# Altium footprint library con-cpci.PCBLIB: 25 footprints (part 1 of 2)
Each footprint in its own frame and in the unit in brackets; x right, y up, seen from the top. Pads: shape width x height; smd on the part's side, far side on the other; paste and mask are expansions set on the pad; w line width, h text height; cw(c..) or ccw(c..) is an arc to the next point about the centre after c.
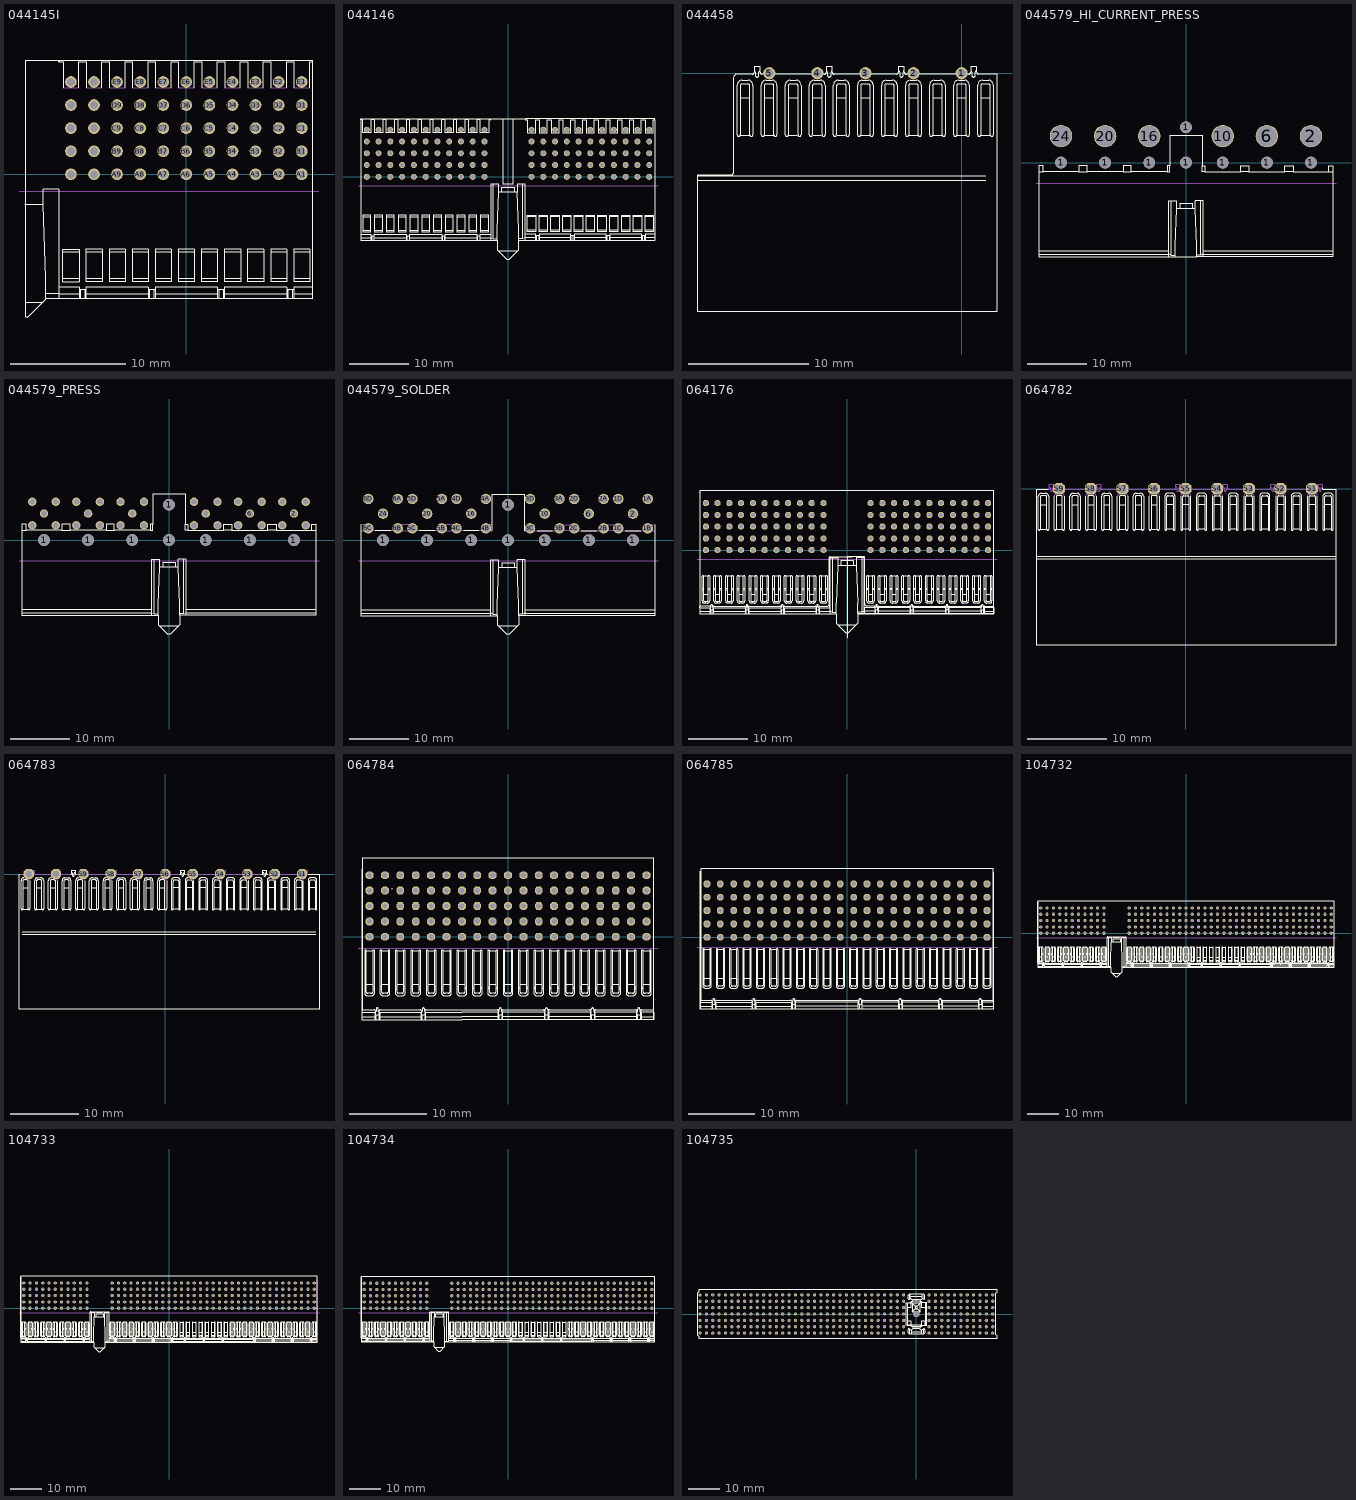
[diagram p0: the footprints below, top view; thin cyan lines are the x and y axes]

## 044145I [mil]
pads (55):
  round 40 hole 27.56: A1(393.7,0) A2(314.96,0) A3(236.22,0) A4(157.48,0) A5(78.74,0) A6(0,0) A7(-78.74,0) A8(-157.48,0) A9(-236.22,0) A10(-314.96,0) A11(-393.7,0) B1(393.7,78.74) B2(314.96,78.74) B3(236.22,78.74) B4(157.48,78.74) B5(78.74,78.74) B6(0,78.74) B7(-78.74,78.74) B8(-157.48,78.74) B9(-236.22,78.74) B10(-314.96,78.74) B11(-393.7,78.74) C1(393.7,157.48) C2(314.96,157.48) C3(236.22,157.48) C4(157.48,157.48) C5(78.74,157.48) C6(0,157.48) C7(-78.74,157.48) C8(-157.48,157.48) C9(-236.22,157.48) C10(-314.96,157.48) C11(-393.7,157.48) D1(393.7,236.22) D2(314.96,236.22) D3(236.22,236.22) D4(157.48,236.22) D5(78.74,236.22) D6(0,236.22) D7(-78.74,236.22) D8(-157.48,236.22) D9(-236.22,236.22) D10(-314.96,236.22) D11(-393.7,236.22) E1(393.7,314.96) E2(314.96,314.96) E3(236.22,314.96) E4(157.48,314.96) E5(78.74,314.96) E6(0,314.96) E7(-78.74,314.96) E8(-157.48,314.96) E9(-236.22,314.96) E10(-314.96,314.96) E11(-393.7,314.96)
Top Overlay:
  lines w4: -551.18,-104.33 -488.06,-104.33 ; -549.21,-436.02 -489.17,-436.02 ; -479.33,-405.51 -435.04,-405.51 ; -435.04,-425.2 -435.04,-51.18 -488.06,-51.18 -488.06,-104.33 ; -435.04,-409.45 -366.14,-409.45 ; -435.04,-385.83 -366.14,-385.83 -366.14,-425.2 ; -421.26,-356.3 -366.14,-356.3 ; -421.26,-265.75 -366.14,-265.75 ; -420.59,294.71 -420.59,383.3 -433.07,383.3 ; -366.61,294.71 -366.61,383.3 -341.85,383.3 -341.85,294.71 ; -366.14,-393.7 -342.52,-393.7 ; -362.2,-425.2 -362.2,-393.7 ; -346.46,-425.2 -346.46,-393.7 ; -342.52,-425.2 -342.52,-385.83 -129.92,-385.83 -129.92,-425.2 ; -342.52,-409.45 -129.92,-409.45 ; -342.52,-356.3 -287.4,-356.3 ; -342.52,-265.75 -287.4,-265.75 ; -287.87,294.71 -287.87,383.3 -263.11,383.3 -263.11,294.71 ; -263.78,-356.3 -208.66,-356.3 ; -263.78,-265.75 -208.66,-265.75 ; -209.13,294.71 -209.13,383.3 -184.37,383.3 -184.37,294.71 ; -185.04,-356.3 -129.92,-356.3 ; -185.04,-265.75 -129.92,-265.75 ; -130.39,294.71 -130.39,383.3 -105.63,383.3 -105.63,294.71 ; -129.92,-393.7 -106.3,-393.7 ; -125.98,-425.2 -125.98,-393.7 ; -110.24,-425.2 -110.24,-393.7 ; -106.3,-425.2 -106.3,-385.83 106.3,-385.83 106.3,-425.2 ; -106.3,-409.45 106.3,-409.45 ; -106.3,-356.3 -51.18,-356.3 ; -106.3,-265.75 -51.18,-265.75 ; -51.65,294.71 -51.65,383.3 -26.89,383.3 -26.89,294.71 ; -27.56,-356.3 27.56,-356.3 ; -27.56,-265.75 27.56,-265.75 ; 27.09,294.71 27.09,383.3 51.85,383.3 51.85,294.71 ; 51.18,-356.3 106.3,-356.3 ; 51.18,-265.75 106.3,-265.75 ; 105.83,294.71 105.83,383.3 130.59,383.3 130.59,294.71 ; 106.3,-393.7 129.92,-393.7 ; 110.24,-425.2 110.24,-393.7 ; 125.98,-425.2 125.98,-393.7 ; 129.92,-425.2 129.92,-385.83 342.52,-385.83 342.52,-425.2 ; 129.92,-409.45 342.52,-409.45 ; 129.92,-356.3 185.04,-356.3 ; 129.92,-265.75 185.04,-265.75 ; 184.57,294.71 184.57,383.3 209.33,383.3 209.33,294.71 ; 208.66,-356.3 263.78,-356.3 ; 208.66,-265.75 263.78,-265.75 ; 263.31,294.71 263.31,383.3 288.07,383.3 288.07,294.71 ; 287.4,-356.3 342.52,-356.3 ; 287.4,-265.75 342.52,-265.75 ; 342.05,294.71 342.05,383.3 366.82,383.3 366.82,294.71 ; 342.52,-393.7 366.14,-393.7 ; 346.46,-425.2 346.46,-393.7 ; 362.2,-425.2 362.2,-393.7 ; 366.14,-425.2 366.14,-385.83 431.89,-385.83 ; 366.14,-409.45 431.89,-409.45 ; 366.14,-356.3 421.26,-356.3 ; 366.14,-265.75 421.26,-265.75 ; 420.79,294.71 420.79,383.3 431.89,383.3 ; -488.06,-104.33 -479.33,-354.33 -479.33,-425.2 ; -479.33,-425.2 431.89,-425.2 431.89,383.3 ; -479.33,-425.2 -479.33,-426.18 -541.34,-488.19 -549.21,-488.19 -549.21,387.8 -435.04,387.8 -435.04,383.3 -433.07,383.3 ; -433.07,383.3 -433.07,387.8 431.89,387.8 431.89,383.3 ; -421.26,-366.15 -421.26,-255.91 -366.14,-255.91 -366.14,-366.15 -421.26,-366.15 ; -342.52,-366.15 -342.52,-255.91 -287.4,-255.91 -287.4,-366.15 -342.52,-366.15 ; -263.78,-366.15 -263.78,-255.91 -208.66,-255.91 -208.66,-366.15 -263.78,-366.15 ; -185.04,-366.15 -185.04,-255.91 -129.92,-255.91 -129.92,-366.15 -185.04,-366.15 ; -106.3,-366.15 -106.3,-255.91 -51.18,-255.91 -51.18,-366.15 -106.3,-366.15 ; -27.56,-366.15 -27.56,-255.91 27.56,-255.91 27.56,-366.15 -27.56,-366.15 ; 51.18,-366.15 51.18,-255.91 106.3,-255.91 106.3,-366.15 51.18,-366.15 ; 129.92,-366.15 129.92,-255.91 185.04,-255.91 185.04,-366.15 129.92,-366.15 ; 208.66,-366.15 208.66,-255.91 263.78,-255.91 263.78,-366.15 208.66,-366.15 ; 287.4,-366.15 287.4,-255.91 342.52,-255.91 342.52,-366.15 287.4,-366.15 ; 366.14,-366.15 366.14,-255.91 421.26,-255.91 421.26,-366.15 366.14,-366.15
Mechanical 1:
  lines w0: -570.87,-59.06 452.76,-59.06
Mechanical 16:
  lines w4: -420.59,294.71 -366.61,294.71 ; -341.85,294.71 -287.87,294.71 ; -263.11,294.71 -209.13,294.71 ; -184.37,294.71 -130.39,294.71 ; -105.63,294.71 -51.65,294.71 ; -26.89,294.71 27.09,294.71 ; 51.85,294.71 105.83,294.71 ; 130.59,294.71 184.57,294.71 ; 209.33,294.71 263.31,294.71 ; 288.07,294.71 342.05,294.71 ; 366.82,294.71 420.79,294.71

## 044146 [mil]
pads (110):
  round 40 hole 27.56: A1(944.88,0) A2(866.14,0) A3(787.4,0) A4(708.66,0) A5(629.92,0) A6(551.18,0) A7(472.44,0) A8(393.7,0) A9(314.96,0) A10(236.22,0) A11(157.48,0) A15(-157.48,0) A16(-236.22,0) A17(-314.96,0) A18(-393.7,0) A19(-472.44,0) A20(-551.18,0) A21(-629.92,0) A22(-708.66,0) A23(-787.4,0) A24(-866.14,0) A25(-944.88,0) B1(944.88,78.74) B2(866.14,78.74) B3(787.4,78.74) B4(708.66,78.74) B5(629.92,78.74) B6(551.18,78.74) B7(472.44,78.74) B8(393.7,78.74) B9(314.96,78.74) B10(236.22,78.74) B11(157.48,78.74) B15(-157.48,78.74) B16(-236.22,78.74) B17(-314.96,78.74) B18(-393.7,78.74) B19(-472.44,78.74) B20(-551.18,78.74) B21(-629.92,78.74) B22(-708.66,78.74) B23(-787.4,78.74) B24(-866.14,78.74) B25(-944.88,78.74) C1(944.88,157.48) C2(866.14,157.48) C3(787.4,157.48) C4(708.66,157.48) C5(629.92,157.48) C6(551.18,157.48) C7(472.44,157.48) C8(393.7,157.48) C9(314.96,157.48) C10(236.22,157.48) C11(157.48,157.48) C15(-157.48,157.48) C16(-236.22,157.48) C17(-314.96,157.48) C18(-393.7,157.48) C19(-472.44,157.48) C20(-551.18,157.48) C21(-629.92,157.48) C22(-708.66,157.48) C23(-787.4,157.48) C24(-866.14,157.48) C25(-944.88,157.48) D1(944.88,236.22) D2(866.14,236.22) D3(787.4,236.22) D4(708.66,236.22) D5(629.92,236.22) D6(551.18,236.22) D7(472.44,236.22) D8(393.7,236.22) D9(314.96,236.22) D10(236.22,236.22) D11(157.48,236.22) D15(-157.48,236.22) D16(-236.22,236.22) D17(-314.96,236.22) D18(-393.7,236.22) D19(-472.44,236.22) D20(-551.18,236.22) D21(-629.92,236.22) D22(-708.66,236.22) D23(-787.4,236.22) D24(-866.14,236.22) D25(-944.88,236.22) E1(944.88,314.96) E2(866.14,314.96) E3(787.4,314.96) E4(708.66,314.96) E5(629.92,314.96) E6(551.18,314.96) E7(472.44,314.96) E8(393.7,314.96) E9(314.96,314.96) E10(236.22,314.96) E11(157.48,314.96) E15(-157.48,314.96) E16(-236.22,314.96) E17(-314.96,314.96) E18(-393.7,314.96) E19(-472.44,314.96) E20(-551.18,314.96) E21(-629.92,314.96) E22(-708.66,314.96) E23(-787.4,314.96) E24(-866.14,314.96) E25(-944.88,314.96)
Top Overlay:
  drawing of 326 lines, arcs and shapes, not listed
Mechanical 1:
  lines w0: -1003.94,-59.06 1003.94,-59.06

## 044458 [mil]
pads (5):
  round 40 hole 27.56: 1(0,0) 2(-157.48,0) 3(-314.96,0) 4(-472.44,0) 5(-629.92,0)
Top Overlay:
  drawing of 217 lines, arcs and shapes, not listed

## 044579_HI_CURRENT_PRESS [mm]
pads (14):
  round 2 hole 2: 1(-21.25,0) 1(-13.75,0) 1(-6.25,0) 1(0,0) 1(0,6) 1(6.25,0) 1(13.75,0) 1(21.25,0)
  round 3.81 hole 3.5: 2(21.25,4.5) 6(13.75,4.5) 10(6.25,4.5) 16(-6.25,4.5) 20(-13.75,4.5) 24(-21.25,4.5)
Top Overlay:
  lines w0.102: -25,-15.575 -2.95,-15.575 ; -25,-14.975 -2.95,-14.975 ; -25,-1.525 -24.3,-1.525 ; -2.95,-15.975 -2.95,-6.475 -1.603,-6.475 -1.603,-7.825 ; -2.95,-15.502 -2.474,-15.74 ; -2.474,-6.475 -2.474,-15.74 ; -1.825,-15.74 -2.474,-15.74 ; -1.103,-7.825 -1.103,-6.925 1.103,-6.925 1.103,-7.825 ; 1.825,-15.74 2.474,-15.74 ; 2.474,-6.475 2.474,-15.74 ; 2.95,-15.975 2.95,-6.475 1.603,-6.475 1.603,-7.825 ; 2.95,-15.575 24.97,-15.575 ; 2.95,-15.502 2.474,-15.74 ; 2.95,-14.975 24.97,-14.975 ; 24.97,-1.525 24.3,-1.525 ; -24.3,-1.525 -18.2,-1.525 ; -24.3,-1.525 -24.3,-0.525 -25,-0.525 -25,-15.975 -1.825,-15.975 ; -18.2,-1.525 -18.2,-0.525 -16.8,-0.525 -16.8,-1.525 ; -18.2,-1.525 -16.8,-1.525 ; -16.8,-1.525 -10.7,-1.525 ; -10.7,-1.525 -10.7,-0.525 -9.3,-0.525 -9.3,-1.525 ; -10.7,-1.525 -9.3,-1.525 ; -9.3,-1.525 -3.2,-1.525 ; -3.2,-1.525 -3.2,-0.525 -2.75,-0.525 ; -3.2,-1.525 -2.75,-1.525 -2.75,-0.525 ; -2.75,-0.525 -2.75,4.675 2.75,4.675 2.75,-0.525 ; -1.825,-15.975 -1.825,-14.175 -1.603,-7.825 ; -1.825,-15.975 1.825,-15.975 ; -1.603,-7.825 1.603,-7.825 ; 1.603,-7.825 1.825,-14.175 1.825,-15.975 ; 1.825,-15.975 24.97,-15.975 24.97,-0.525 24.3,-0.525 24.3,-1.525 ; 2.75,-0.525 3.2,-0.525 3.2,-1.525 ; 2.75,-0.525 2.75,-1.525 3.2,-1.525 ; 3.2,-1.525 9.3,-1.525 ; 9.3,-1.525 9.3,-0.525 10.7,-0.525 10.7,-1.525 ; 9.3,-1.525 10.7,-1.525 ; 10.7,-1.525 16.8,-1.525 ; 16.8,-1.525 16.8,-0.525 18.2,-0.525 18.2,-1.525 ; 16.8,-1.525 18.2,-1.525 ; 18.2,-1.525 24.3,-1.525
Mechanical 1:
  lines w0: -25.5,-3.5 25.5,-3.5

## 044579_PRESS [mil]
pads (38):
  round 78.74 hole 78.74: 1(-836.61,0) 1(-541.34,0) 1(-246.06,0) 1(0,0) 1(0,236.22) 1(246.06,0) 1(541.34,0) 1(836.61,0)
  round 56 hole 39.37: 2(836.61,177.17) 2.1(915.35,255.91) 2.2(915.35,98.43) 2.3(757.87,98.43) 2.4(757.87,255.91) 6(541.34,177.17) 6.1(620.08,255.91) 6.2(620.08,98.43) 6.3(462.6,98.43) 6.4(462.6,255.91) 10(246.06,177.17) 10.1(324.8,255.91) 10.2(324.8,98.43) 10.3(167.32,98.43) 10.4(167.32,255.91) 16(-246.06,177.17) 16.1(-167.32,255.91) 16.2(-167.32,98.43) 16.3(-324.8,98.43) 16.4(-324.8,255.91) 20(-541.34,177.17) 20.1(-462.6,255.91) 20.2(-462.6,98.43) 20.3(-620.08,98.43) 20.4(-620.08,255.91) 24(-836.61,177.17) 24.1(-757.87,255.91) 24.2(-757.87,98.43) 24.3(-915.35,98.43) 24.4(-915.35,255.91)
Top Overlay:
  lines w4: -984.25,-488.15 -116.14,-488.15 ; -984.25,-464.53 -116.14,-464.53 ; -984.25,65 -956.69,65 ; -116.14,-503.9 -116.14,-129.88 -63.12,-129.88 -63.12,-183.03 ; -116.14,-485.28 -97.39,-494.65 ; -97.39,-129.88 -97.39,-494.65 ; -71.85,-494.65 -97.39,-494.65 ; -62.01,-577.72 62.01,-577.72 ; -43.43,-183.03 -43.43,-147.6 43.43,-147.6 43.43,-183.03 ; 71.85,-494.65 97.39,-494.65 ; 97.39,-129.88 97.39,-494.65 ; 116.14,-503.9 116.14,-129.88 63.12,-129.88 63.12,-183.03 ; 116.14,-488.15 983.07,-488.15 ; 116.14,-485.28 97.39,-494.65 ; 116.14,-464.53 983.07,-464.53 ; 983.07,65 956.69,65 ; -956.69,65 -716.54,65 ; -956.69,65 -956.69,104.37 -984.25,104.37 -984.25,-503.9 -71.85,-503.9 ; -716.54,65 -716.54,104.37 -661.42,104.37 -661.42,65 ; -716.54,65 -661.42,65 ; -661.42,65 -421.26,65 ; -421.26,65 -421.26,104.37 -366.14,104.37 -366.14,65 ; -421.26,65 -366.14,65 ; -366.14,65 -125.98,65 ; -125.98,65 -125.98,104.37 -108.27,104.37 ; -125.98,65 -108.27,65 -108.27,104.37 ; -108.27,104.37 -108.27,309.09 108.27,309.09 108.27,104.37 ; -71.85,-503.9 -71.85,-567.87 -9.84,-629.88 9.84,-629.88 71.85,-567.87 71.85,-503.9 ; -71.85,-503.9 -71.85,-433.03 -63.12,-183.03 ; -63.12,-183.03 63.12,-183.03 ; 63.12,-183.03 71.85,-433.03 71.85,-503.9 ; 71.85,-503.9 983.07,-503.9 983.07,104.37 956.69,104.37 956.69,65 ; 108.27,104.37 125.98,104.37 125.98,65 ; 108.27,104.37 108.27,65 125.98,65 ; 125.98,65 366.14,65 ; 366.14,65 366.14,104.37 421.26,104.37 421.26,65 ; 366.14,65 421.26,65 ; 421.26,65 661.42,65 ; 661.42,65 661.42,104.37 716.54,104.37 716.54,65 ; 661.42,65 716.54,65 ; 716.54,65 956.69,65
Mechanical 1:
  lines w0: -1003.94,-137.8 1003.94,-137.8

## 044579_SOLDER [mil]
pads (38):
  round 78.74 hole 78.74: 1(-836.61,0) 1(-541.34,0) 1(-246.06,0) 1(0,0) 1(0,236.22) 1(246.06,0) 1(541.34,0) 1(836.61,0)
  round 70 hole 51.18: 1A(935.04,275.59) 1B(935.04,78.74) 1C(738.19,78.74) 1D(738.19,275.59) 2(836.61,177.17) 2A(639.76,275.59) 2B(639.76,78.74) 2C(442.91,78.74) 2D(442.91,275.59) 3A(344.49,275.59) 3B(344.49,78.74) 3C(147.64,78.74) 3D(147.64,275.59) 4A(-147.64,275.59) 4B(-147.64,78.74) 4C(-344.49,78.74) 4D(-344.49,275.59) 5A(-442.91,275.59) 5B(-442.91,78.74) 5C(-639.76,78.74) 5D(-639.76,275.59) 6(541.34,177.17) 6A(-738.19,275.59) 6B(-738.19,78.74) 6C(-935.04,78.74) 6D(-935.04,275.59) 10(246.06,177.17) 16(-246.06,177.17) 20(-541.34,177.17) 24(-836.61,177.17)
Top Overlay:
  lines w4: -984.25,-490.16 -116.14,-490.16 ; -984.25,-466.54 -116.14,-466.54 ; -984.25,102.36 -984.25,-505.91 -71.85,-505.91 -71.85,-435.04 -63.12,-185.04 ; -887.8,62.99 -785.43,62.99 ; -592.52,62.99 -490.16,62.99 ; -297.24,62.99 -194.88,62.99 ; -116.14,-505.91 -116.14,-131.89 -63.12,-131.89 -63.12,-185.04 ; -116.14,-487.28 -97.39,-496.66 ; -108.27,62.99 -108.27,307.09 108.27,307.09 108.27,62.99 ; -97.39,-131.89 -97.39,-496.66 ; -71.85,-503.9 -71.85,-567.87 -9.84,-629.88 9.84,-629.88 71.85,-567.87 71.85,-503.9 ; -71.85,-496.66 -97.39,-496.66 ; -62.01,-577.72 62.01,-577.72 ; -43.43,-185.04 -43.43,-149.61 43.43,-149.61 43.43,-185.04 ; 71.85,-496.66 97.39,-496.66 ; 97.39,-131.89 97.39,-496.66 ; 116.14,-505.91 116.14,-131.89 63.12,-131.89 63.12,-185.04 ; 116.14,-490.16 983.07,-490.16 ; 116.14,-487.28 97.39,-496.66 ; 116.14,-466.54 983.07,-466.54 ; 194.88,62.99 297.24,62.99 ; 490.16,62.99 592.52,62.99 ; 785.43,62.99 887.8,62.99 ; 983.07,102.36 983.07,-505.91 71.85,-505.91 71.85,-435.04 63.12,-185.04 ; -63.12,-185.04 63.12,-185.04
Mechanical 1:
  lines w0: -1003.94,-137.8 1003.94,-137.8
Mechanical 16:
  lines w4: -984.25,62.99 -956.69,62.99 ; -984.25,102.36 -956.69,102.36 -956.69,62.99 ; -108.27,62.99 -125.98,62.99 ; -108.27,102.36 -125.98,102.36 -125.98,62.99 ; 108.27,62.99 366.14,62.99 ; 983.07,62.99 956.69,62.99 ; 983.07,102.36 956.69,102.36 956.69,62.99 ; -956.69,62.99 -716.54,62.99 ; -716.54,62.99 -716.54,102.36 -661.42,102.36 -661.42,62.99 ; -716.54,62.99 -661.42,62.99 ; -661.42,62.99 -421.26,62.99 ; -421.26,62.99 -421.26,102.36 -366.14,102.36 -366.14,62.99 ; -421.26,62.99 -366.14,62.99 ; -366.14,62.99 -125.98,62.99 ; 366.14,62.99 366.14,102.36 421.26,102.36 421.26,62.99 ; 366.14,62.99 421.26,62.99 ; 421.26,62.99 661.42,62.99 ; 661.42,62.99 661.42,102.36 716.54,102.36 716.54,62.99 ; 661.42,62.99 716.54,62.99 ; 716.54,62.99 956.69,62.99

## 064176 [mil]
pads (110):
  oct 40x40 hole 27.56: A1(944.88,0) A2(866.14,0) A3(787.4,0) A4(708.66,0) A5(629.92,0) A6(551.18,0) A7(472.44,0) A8(393.7,0) A9(314.96,0) A10(236.22,0) A11(157.48,0) A15(-157.48,0) A16(-236.22,0) A17(-314.96,0) A18(-393.7,0) A19(-472.44,0) A20(-551.18,0) A21(-629.92,0) A22(-708.66,0) A23(-787.4,0) A24(-866.14,0) A25(-944.88,0) B1(944.88,78.74) B2(866.14,78.74) B3(787.4,78.74) B4(708.66,78.74) B5(629.92,78.74) B6(551.18,78.74) B7(472.44,78.74) B8(393.7,78.74) B9(314.96,78.74) B10(236.22,78.74) B11(157.48,78.74) B15(-157.48,78.74) B16(-236.22,78.74) B17(-314.96,78.74) B18(-393.7,78.74) B19(-472.44,78.74) B20(-551.18,78.74) B21(-629.92,78.74) B22(-708.66,78.74) B23(-787.4,78.74) B24(-866.14,78.74) B25(-944.88,78.74) C1(944.88,157.48) C2(866.14,157.48) C3(787.4,157.48) C4(708.66,157.48) C5(629.92,157.48) C6(551.18,157.48) C7(472.44,157.48) C8(393.7,157.48) C9(314.96,157.48) C10(236.22,157.48) C11(157.48,157.48) C15(-157.48,157.48) C16(-236.22,157.48) C17(-314.96,157.48) C18(-393.7,157.48) C19(-472.44,157.48) C20(-551.18,157.48) C21(-629.92,157.48) C22(-708.66,157.48) C23(-787.4,157.48) C24(-866.14,157.48) C25(-944.88,157.48) D1(944.88,236.22) D2(866.14,236.22) D3(787.4,236.22) D4(708.66,236.22) D5(629.92,236.22) D6(551.18,236.22) D7(472.44,236.22) D8(393.7,236.22) D9(314.96,236.22) D10(236.22,236.22) D11(157.48,236.22) D15(-157.48,236.22) D16(-236.22,236.22) D17(-314.96,236.22) D18(-393.7,236.22) D19(-472.44,236.22) D20(-551.18,236.22) D21(-629.92,236.22) D22(-708.66,236.22) D23(-787.4,236.22) D24(-866.14,236.22) D25(-944.88,236.22) E1(944.88,314.96) E2(866.14,314.96) E3(787.4,314.96) E4(708.66,314.96) E5(629.92,314.96) E6(551.18,314.96) E7(472.44,314.96) E8(393.7,314.96) E9(314.96,314.96) E10(236.22,314.96) E11(157.48,314.96) E15(-157.48,314.96) E16(-236.22,314.96) E17(-314.96,314.96) E18(-393.7,314.96) E19(-472.44,314.96) E20(-551.18,314.96) E21(-629.92,314.96) E22(-708.66,314.96) E23(-787.4,314.96) E24(-866.14,314.96) E25(-944.88,314.96)
Top Overlay:
  drawing of 683 lines, arcs and shapes, not listed
Mechanical 1:
  lines w0: -1003.94,-59.06 1003.94,-59.06

## 064782 [mm]
pads (9):
  oct 1.5x1.5 hole 1: S1(16,0) S2(12,0) S3(8,0) S4(4,0) S5(0,0) S6(-4,0) S7(-8,0) S8(-12,0) S9(-16,0)
Top Overlay:
  drawing of 247 lines, arcs and shapes, not listed
Mechanical 16:
  lines w0.102: -17.375,-0.061 ccw(c-17.375,0.089) -17.225,0.089 -17.225,0.559 -16.725,0.559 -16.725,0.089 ccw(c-16.575,0.089) -16.575,-0.061 -11.375,-0.061 ccw(c-11.375,0.089) -11.225,0.089 -11.225,0.559 -10.725,0.559 -10.725,0.089 ccw(c-10.575,0.089) -10.575,-0.061 -1.375,-0.061 ccw(c-1.375,0.089) -1.225,0.089 -1.225,0.559 -0.725,0.559 -0.725,0.089 ccw(c-0.575,0.089) -0.575,-0.061 4.625,-0.061 ccw(c4.625,0.089) 4.775,0.089 4.775,0.559 5.275,0.559 5.275,0.089 ccw(c5.425,0.089) 5.425,-0.061 10.625,-0.061 ccw(c10.625,0.089) 10.775,0.089 10.775,0.559 11.275,0.559 11.275,0.089 ccw(c11.425,0.089) 11.425,-0.061 16.625,-0.061 ccw(c16.625,0.089) 16.775,0.089 16.775,0.559 17.275,0.559 17.275,0.089 ; -17.225,0.286 ccw(c-17.125,0.286) -17.175,0.2 cw(c-17.225,0.113) -17.125,0.113 -17.125,-0.149 ccw(c-16.975,-0.149) -16.825,-0.149 -16.825,0.113 cw(c-16.725,0.113) -16.775,0.2 ccw(c-16.825,0.286) -16.725,0.286 ; -16.625,-0.961 cw(c-16.225,-0.961) -16.225,-0.561 -15.725,-0.561 cw(c-15.725,-0.961) -15.325,-0.961 ; -12.625,-0.961 cw(c-12.225,-0.961) -12.225,-0.561 -11.725,-0.561 cw(c-11.725,-0.961) -11.325,-0.961 ; -11.225,0.286 ccw(c-11.125,0.286) -11.175,0.2 cw(c-11.225,0.113) -11.125,0.113 -11.125,-0.149 ccw(c-10.975,-0.149) -10.825,-0.149 -10.825,0.113 cw(c-10.725,0.113) -10.775,0.2 ccw(c-10.825,0.286) -10.725,0.286 ; -8.625,-0.961 cw(c-8.225,-0.961) -8.225,-0.561 -7.725,-0.561 cw(c-7.725,-0.961) -7.325,-0.961 ; -4.625,-0.961 cw(c-4.225,-0.961) -4.225,-0.561 -3.725,-0.561 cw(c-3.725,-0.961) -3.325,-0.961 ; -1.225,0.286 ccw(c-1.125,0.286) -1.175,0.2 cw(c-1.225,0.113) -1.125,0.113 -1.125,-0.149 ccw(c-0.975,-0.149) -0.825,-0.149 -0.825,0.113 cw(c-0.725,0.113) -0.775,0.2 ccw(c-0.825,0.286) -0.725,0.286 ; -0.625,-0.961 cw(c-0.225,-0.961) -0.225,-0.561 0.275,-0.561 cw(c0.275,-0.961) 0.675,-0.961 ; 3.375,-0.961 cw(c3.775,-0.961) 3.775,-0.561 4.275,-0.561 cw(c4.275,-0.961) 4.675,-0.961 ; 4.775,0.286 ccw(c4.875,0.286) 4.825,0.2 cw(c4.775,0.113) 4.875,0.113 4.875,-0.149 ccw(c5.025,-0.149) 5.175,-0.149 5.175,0.113 cw(c5.275,0.113) 5.225,0.2 ccw(c5.175,0.286) 5.275,0.286 ; 7.375,-0.961 cw(c7.775,-0.961) 7.775,-0.561 8.275,-0.561 cw(c8.275,-0.961) 8.675,-0.961 ; 10.775,0.286 ccw(c10.875,0.286) 10.825,0.2 cw(c10.775,0.113) 10.875,0.113 10.875,-0.149 ccw(c11.025,-0.149) 11.175,-0.149 11.175,0.113 cw(c11.275,0.113) 11.225,0.2 ccw(c11.175,0.286) 11.275,0.286 ; 11.375,-0.961 cw(c11.775,-0.961) 11.775,-0.561 12.275,-0.561 cw(c12.275,-0.961) 12.675,-0.961 ; 15.375,-0.961 cw(c15.775,-0.961) 15.775,-0.561 16.275,-0.561 cw(c16.275,-0.961) 16.675,-0.961 ; 16.775,0.286 ccw(c16.875,0.286) 16.825,0.2 cw(c16.775,0.113) 16.875,0.113 16.875,-0.149 ccw(c17.025,-0.149) 17.175,-0.149 17.175,0.113 cw(c17.275,0.113) 17.225,0.2 ccw(c17.175,0.286) 17.275,0.286

## 064783 [mm]
pads (11):
  oct 1.5x1.5 hole 1: S1(20,0) S2(16,0) S3(12,0) S4(8,0) S5(4,0) S6(0,0) S7(-4,0) S8(-8,0) S9(-12,0) S10(-16,0) S11(-20,0)
Top Overlay:
  drawing of 329 lines, arcs and shapes, not listed
Mechanical 16:
  lines w0.102: -21.425,-0.061 -19.875,-0.061 ccw(c-19.875,0.089) -19.725,0.089 -19.725,0.559 -19.225,0.559 -19.225,0.089 ccw(c-19.075,0.089) -19.075,-0.061 -13.875,-0.061 ; -20.725,-0.561 -20.225,-0.561 cw(c-20.225,-0.961) -19.825,-0.961 ; -19.725,0.286 ccw(c-19.625,0.286) -19.675,0.2 cw(c-19.725,0.113) -19.625,0.113 -19.625,-0.149 ccw(c-19.475,-0.149) -19.325,-0.149 -19.325,0.113 cw(c-19.225,0.113) -19.275,0.2 ccw(c-19.325,0.286) -19.225,0.286 ; -16.725,-0.561 -16.225,-0.561 cw(c-16.225,-0.961) -15.825,-0.961 ; -13.075,-0.061 -7.875,-0.061 ccw(c-7.875,0.089) -7.725,0.089 -7.725,0.559 -7.225,0.559 -7.225,0.089 ccw(c-7.075,0.089) -7.075,-0.061 2.125,-0.061 ; -12.725,-0.561 -12.225,-0.561 cw(c-12.225,-0.961) -11.825,-0.961 ; -8.725,-0.561 -8.225,-0.561 cw(c-8.225,-0.961) -7.825,-0.961 ; -7.725,0.286 ccw(c-7.625,0.286) -7.675,0.2 cw(c-7.725,0.113) -7.625,0.113 -7.625,-0.149 ccw(c-7.475,-0.149) -7.325,-0.149 -7.325,0.113 cw(c-7.225,0.113) -7.275,0.2 ccw(c-7.325,0.286) -7.225,0.286 ; -4.725,-0.561 -4.225,-0.561 cw(c-4.225,-0.961) -3.825,-0.961 ; -0.725,-0.561 -0.225,-0.561 cw(c-0.225,-0.961) 0.175,-0.961 ; 2.925,-0.061 8.125,-0.061 ccw(c8.125,0.089) 8.275,0.089 8.275,0.559 8.775,0.559 8.775,0.089 ccw(c8.925,0.089) 8.925,-0.061 14.125,-0.061 ; 3.275,-0.561 3.775,-0.561 cw(c3.775,-0.961) 4.175,-0.961 ; 7.275,-0.561 7.775,-0.561 cw(c7.775,-0.961) 8.175,-0.961 ; 8.275,0.286 ccw(c8.375,0.286) 8.325,0.2 cw(c8.275,0.113) 8.375,0.113 8.375,-0.149 ccw(c8.525,-0.149) 8.675,-0.149 8.675,0.113 cw(c8.775,0.113) 8.725,0.2 ccw(c8.675,0.286) 8.775,0.286 ; 11.275,-0.561 11.775,-0.561 cw(c11.775,-0.961) 12.175,-0.961 ; 14.925,-0.061 20.125,-0.061 ccw(c20.125,0.089) 20.275,0.089 20.275,0.559 20.775,0.559 20.775,0.089 ccw(c20.925,0.089) 20.925,-0.061 ; 15.275,-0.561 15.775,-0.561 cw(c15.775,-0.961) 16.175,-0.961 ; 19.275,-0.561 19.775,-0.561 cw(c19.775,-0.961) 20.175,-0.961 ; 20.325,0.2 cw(c20.275,0.113) 20.375,0.113 20.375,-0.149 ccw(c20.525,-0.149) 20.675,-0.149 20.675,0.113 cw(c20.775,0.113) 20.725,0.2 ccw(c20.675,0.286) 20.775,0.286

## 064784 [mil]
pads (95):
  oct 40x40 hole 27.56: A1(708.66,0) A2(629.92,0) A3(551.18,0) A4(472.44,0) A5(393.7,0) A6(314.96,0) A7(236.22,0) A8(157.48,0) A9(78.74,0) A10(0,0) A11(-78.74,0) A12(-157.48,0) A13(-236.22,0) A14(-314.96,0) A15(-393.7,0) A16(-472.44,0) A17(-551.18,0) A18(-629.92,0) A19(-708.66,0) B1(708.66,78.74) B2(629.92,78.74) B3(551.18,78.74) B4(472.44,78.74) B5(393.7,78.74) B6(314.96,78.74) B7(236.22,78.74) B8(157.48,78.74) B9(78.74,78.74) B10(0,78.74) B11(-78.74,78.74) B12(-157.48,78.74) B13(-236.22,78.74) B14(-314.96,78.74) B15(-393.7,78.74) B16(-472.44,78.74) B17(-551.18,78.74) B18(-629.92,78.74) B19(-708.66,78.74) C1(708.66,157.48) C2(629.92,157.48) C3(551.18,157.48) C4(472.44,157.48) C5(393.7,157.48) C6(314.96,157.48) C7(236.22,157.48) C8(157.48,157.48) C9(78.74,157.48) C10(0,157.48) C11(-78.74,157.48) C12(-157.48,157.48) C13(-236.22,157.48) C14(-314.96,157.48) C15(-393.7,157.48) C16(-472.44,157.48) C17(-551.18,157.48) C18(-629.92,157.48) C19(-708.66,157.48) D1(708.66,236.22) D2(629.92,236.22) D3(551.18,236.22) D4(472.44,236.22) D5(393.7,236.22) D6(314.96,236.22) D7(236.22,236.22) D8(157.48,236.22) D9(78.74,236.22) D10(0,236.22) D11(-78.74,236.22) D12(-157.48,236.22) D13(-236.22,236.22) D14(-314.96,236.22) D15(-393.7,236.22) D16(-472.44,236.22) D17(-551.18,236.22) D18(-629.92,236.22) D19(-708.66,236.22) E1(708.66,314.96) E2(629.92,314.96) E3(551.18,314.96) E4(472.44,314.96) E5(393.7,314.96) E6(314.96,314.96) E7(236.22,314.96) E8(157.48,314.96) E9(78.74,314.96) E10(0,314.96) E11(-78.74,314.96) E12(-157.48,314.96) E13(-236.22,314.96) E14(-314.96,314.96) E15(-393.7,314.96) E16(-472.44,314.96) E17(-551.18,314.96) E18(-629.92,314.96) E19(-708.66,314.96)
Top Overlay:
  drawing of 522 lines, arcs and shapes, not listed
Mechanical 1:
  lines w0: -767.72,-59.06 767.72,-59.06

## 064785 [mil]
pads (110):
  oct 40x40 hole 27.56: A1(826.77,0) A2(748.03,0) A3(669.29,0) A4(590.55,0) A5(511.81,0) A6(433.07,0) A7(354.33,0) A8(275.59,0) A9(196.85,0) A10(118.11,0) A11(39.37,0) A12(-39.37,0) A13(-118.11,0) A14(-196.85,0) A15(-275.59,0) A16(-354.33,0) A17(-433.07,0) A18(-511.81,0) A19(-590.55,0) A20(-669.29,0) A21(-748.03,0) A22(-826.77,0) B1(826.77,78.74) B2(748.03,78.74) B3(669.29,78.74) B4(590.55,78.74) B5(511.81,78.74) B6(433.07,78.74) B7(354.33,78.74) B8(275.59,78.74) B9(196.85,78.74) B10(118.11,78.74) B11(39.37,78.74) B12(-39.37,78.74) B13(-118.11,78.74) B14(-196.85,78.74) B15(-275.59,78.74) B16(-354.33,78.74) B17(-433.07,78.74) B18(-511.81,78.74) B19(-590.55,78.74) B20(-669.29,78.74) B21(-748.03,78.74) B22(-826.77,78.74) C1(826.77,157.48) C2(748.03,157.48) C3(669.29,157.48) C4(590.55,157.48) C5(511.81,157.48) C6(433.07,157.48) C7(354.33,157.48) C8(275.59,157.48) C9(196.85,157.48) C10(118.11,157.48) C11(39.37,157.48) C12(-39.37,157.48) C13(-118.11,157.48) C14(-196.85,157.48) C15(-275.59,157.48) C16(-354.33,157.48) C17(-433.07,157.48) C18(-511.81,157.48) C19(-590.55,157.48) C20(-669.29,157.48) C21(-748.03,157.48) C22(-826.77,157.48) D1(826.77,236.22) D2(748.03,236.22) D3(669.29,236.22) D4(590.55,236.22) D5(511.81,236.22) D6(433.07,236.22) D7(354.33,236.22) D8(275.59,236.22) D9(196.85,236.22) D10(118.11,236.22) D11(39.37,236.22) D12(-39.37,236.22) D13(-118.11,236.22) D14(-196.85,236.22) D15(-275.59,236.22) D16(-354.33,236.22) D17(-433.07,236.22) D18(-511.81,236.22) D19(-590.55,236.22) D20(-669.29,236.22) D21(-748.03,236.22) D22(-826.77,236.22) E1(826.77,314.96) E2(748.03,314.96) E3(669.29,314.96) E4(590.55,314.96) E5(511.81,314.96) E6(433.07,314.96) E7(354.33,314.96) E8(275.59,314.96) E9(196.85,314.96) E10(118.11,314.96) E11(39.37,314.96) E12(-39.37,314.96) E13(-118.11,314.96) E14(-196.85,314.96) E15(-275.59,314.96) E16(-354.33,314.96) E17(-433.07,314.96) E18(-511.81,314.96) E19(-590.55,314.96) E20(-669.29,314.96) E21(-748.03,314.96) E22(-826.77,314.96)
Top Overlay:
  drawing of 566 lines, arcs and shapes, not listed
Mechanical 1:
  lines w0: -885.83,-59.06 885.83,-59.06

## 104732 [mil]
pads (220):
  oct 40x40 hole 27.56: A1(1811.02,0) A2(1732.28,0) A3(1653.54,0) A4(1574.8,0) A5(1496.06,0) A6(1417.32,0) A7(1338.58,0) A8(1259.84,0) A9(1181.1,0) A10(1102.36,0) A11(1023.62,0) A12(944.88,0) A13(866.14,0) A14(787.4,0) A15(708.66,0) A16(629.92,0) A17(551.18,0) A18(472.44,0) A19(393.7,0) A20(314.96,0) A21(236.22,0) A22(157.48,0) A23(78.74,0) A24(0,0) A25(-78.74,0) A26(-157.48,0) A27(-236.22,0) A28(-314.96,0) A29(-393.7,0) A30(-472.44,0) A31(-551.18,0) A32(-629.92,0) A33(-708.66,0) A37(-1023.62,0) A38(-1102.36,0) A39(-1181.1,0) A40(-1259.84,0) A41(-1338.58,0) A42(-1417.32,0) A43(-1496.06,0) A44(-1574.8,0) A45(-1653.54,0) A46(-1732.28,0) A47(-1811.02,0) B1(1811.02,78.74) B2(1732.28,78.74) B3(1653.54,78.74) B4(1574.8,78.74) B5(1496.06,78.74) B6(1417.32,78.74) B7(1338.58,78.74) B8(1259.84,78.74) B9(1181.1,78.74) B10(1102.36,78.74) B11(1023.62,78.74) B12(944.88,78.74) B13(866.14,78.74) B14(787.4,78.74) B15(708.66,78.74) B16(629.92,78.74) B17(551.18,78.74) B18(472.44,78.74) B19(393.7,78.74) B20(314.96,78.74) B21(236.22,78.74) B22(157.48,78.74) B23(78.74,78.74) B24(0,78.74) B25(-78.74,78.74) B26(-157.48,78.74) B27(-236.22,78.74) B28(-314.96,78.74) B29(-393.7,78.74) B30(-472.44,78.74) B31(-551.18,78.74) B32(-629.92,78.74) B33(-708.66,78.74) B37(-1023.62,78.74) B38(-1102.36,78.74) B39(-1181.1,78.74) B40(-1259.84,78.74) B41(-1338.58,78.74) B42(-1417.32,78.74) B43(-1496.06,78.74) B44(-1574.8,78.74) B45(-1653.54,78.74) B46(-1732.28,78.74) B47(-1811.02,78.74) C1(1811.02,157.48) C2(1732.28,157.48) C3(1653.54,157.48) C4(1574.8,157.48) C5(1496.06,157.48) C6(1417.32,157.48) C7(1338.58,157.48) C8(1259.84,157.48) C9(1181.1,157.48) C10(1102.36,157.48) C11(1023.62,157.48) C12(944.88,157.48) C13(866.14,157.48) C14(787.4,157.48) C15(708.66,157.48) C16(629.92,157.48) C17(551.18,157.48) C18(472.44,157.48) C19(393.7,157.48) C20(314.96,157.48) C21(236.22,157.48) C22(157.48,157.48) C23(78.74,157.48) C24(0,157.48) C25(-78.74,157.48) C26(-157.48,157.48) C27(-236.22,157.48) C28(-314.96,157.48) C29(-393.7,157.48) C30(-472.44,157.48) C31(-551.18,157.48) C32(-629.92,157.48) C33(-708.66,157.48) C37(-1023.62,157.48) C38(-1102.36,157.48) C39(-1181.1,157.48) C40(-1259.84,157.48) C41(-1338.58,157.48) C42(-1417.32,157.48) C43(-1496.06,157.48) C44(-1574.8,157.48) C45(-1653.54,157.48) C46(-1732.28,157.48) C47(-1811.02,157.48) D1(1811.02,236.22) D2(1732.28,236.22) D3(1653.54,236.22) D4(1574.8,236.22) D5(1496.06,236.22) D6(1417.32,236.22) D7(1338.58,236.22) D8(1259.84,236.22) D9(1181.1,236.22) D10(1102.36,236.22) D11(1023.62,236.22) D12(944.88,236.22) D13(866.14,236.22) D14(787.4,236.22) D15(708.66,236.22) D16(629.92,236.22) D17(551.18,236.22) D18(472.44,236.22) D19(393.7,236.22) D20(314.96,236.22) D21(236.22,236.22) D22(157.48,236.22) D23(78.74,236.22) D24(0,236.22) D25(-78.74,236.22) D26(-157.48,236.22) D27(-236.22,236.22) D28(-314.96,236.22) D29(-393.7,236.22) D30(-472.44,236.22) D31(-551.18,236.22) D32(-629.92,236.22) D33(-708.66,236.22) D37(-1023.62,236.22) D38(-1102.36,236.22) D39(-1181.1,236.22) D40(-1259.84,236.22) D41(-1338.58,236.22) D42(-1417.32,236.22) D43(-1496.06,236.22) D44(-1574.8,236.22) D45(-1653.54,236.22) D46(-1732.28,236.22) D47(-1811.02,236.22) E1(1811.02,314.96) E2(1732.28,314.96) E3(1653.54,314.96) E4(1574.8,314.96) E5(1496.06,314.96) E6(1417.32,314.96) E7(1338.58,314.96) E8(1259.84,314.96) E9(1181.1,314.96) E10(1102.36,314.96) E11(1023.62,314.96) E12(944.88,314.96) E13(866.14,314.96) E14(787.4,314.96) E15(708.66,314.96) E16(629.92,314.96) E17(551.18,314.96) E18(472.44,314.96) E19(393.7,314.96) E20(314.96,314.96) E21(236.22,314.96) E22(157.48,314.96) E23(78.74,314.96) E24(0,314.96) E25(-78.74,314.96) E26(-157.48,314.96) E27(-236.22,314.96) E28(-314.96,314.96) E29(-393.7,314.96) E30(-472.44,314.96) E31(-551.18,314.96) E32(-629.92,314.96) E33(-708.66,314.96) E37(-1023.62,314.96) E38(-1102.36,314.96) E39(-1181.1,314.96) E40(-1259.84,314.96) E41(-1338.58,314.96) E42(-1417.32,314.96) E43(-1496.06,314.96) E44(-1574.8,314.96) E45(-1653.54,314.96) E46(-1732.28,314.96) E47(-1811.02,314.96)
Top Overlay:
  drawing of 1170 lines, arcs and shapes, not listed
Mechanical 1:
  lines w0: -1870.08,-59.06 1870.08,-59.06

## 104733 [mil]
pads (220):
  oct 40x40 hole 27.56: A1(1811.02,0) A2(1732.28,0) A3(1653.54,0) A4(1574.8,0) A5(1496.06,0) A6(1417.32,0) A7(1338.58,0) A8(1259.84,0) A9(1181.1,0) A10(1102.36,0) A11(1023.62,0) A12(944.88,0) A13(866.14,0) A14(787.4,0) A15(708.66,0) A16(629.92,0) A17(551.18,0) A18(472.44,0) A19(393.7,0) A20(314.96,0) A21(236.22,0) A22(157.48,0) A23(78.74,0) A24(0,0) A25(-78.74,0) A26(-157.48,0) A27(-236.22,0) A28(-314.96,0) A29(-393.7,0) A30(-472.44,0) A31(-551.18,0) A32(-629.92,0) A33(-708.66,0) A37(-1023.62,0) A38(-1102.36,0) A39(-1181.1,0) A40(-1259.84,0) A41(-1338.58,0) A42(-1417.32,0) A43(-1496.06,0) A44(-1574.8,0) A45(-1653.54,0) A46(-1732.28,0) A47(-1811.02,0) B1(1811.02,78.74) B2(1732.28,78.74) B3(1653.54,78.74) B4(1574.8,78.74) B5(1496.06,78.74) B6(1417.32,78.74) B7(1338.58,78.74) B8(1259.84,78.74) B9(1181.1,78.74) B10(1102.36,78.74) B11(1023.62,78.74) B12(944.88,78.74) B13(866.14,78.74) B14(787.4,78.74) B15(708.66,78.74) B16(629.92,78.74) B17(551.18,78.74) B18(472.44,78.74) B19(393.7,78.74) B20(314.96,78.74) B21(236.22,78.74) B22(157.48,78.74) B23(78.74,78.74) B24(0,78.74) B25(-78.74,78.74) B26(-157.48,78.74) B27(-236.22,78.74) B28(-314.96,78.74) B29(-393.7,78.74) B30(-472.44,78.74) B31(-551.18,78.74) B32(-629.92,78.74) B33(-708.66,78.74) B37(-1023.62,78.74) B38(-1102.36,78.74) B39(-1181.1,78.74) B40(-1259.84,78.74) B41(-1338.58,78.74) B42(-1417.32,78.74) B43(-1496.06,78.74) B44(-1574.8,78.74) B45(-1653.54,78.74) B46(-1732.28,78.74) B47(-1811.02,78.74) C1(1811.02,157.48) C2(1732.28,157.48) C3(1653.54,157.48) C4(1574.8,157.48) C5(1496.06,157.48) C6(1417.32,157.48) C7(1338.58,157.48) C8(1259.84,157.48) C9(1181.1,157.48) C10(1102.36,157.48) C11(1023.62,157.48) C12(944.88,157.48) C13(866.14,157.48) C14(787.4,157.48) C15(708.66,157.48) C16(629.92,157.48) C17(551.18,157.48) C18(472.44,157.48) C19(393.7,157.48) C20(314.96,157.48) C21(236.22,157.48) C22(157.48,157.48) C23(78.74,157.48) C24(0,157.48) C25(-78.74,157.48) C26(-157.48,157.48) C27(-236.22,157.48) C28(-314.96,157.48) C29(-393.7,157.48) C30(-472.44,157.48) C31(-551.18,157.48) C32(-629.92,157.48) C33(-708.66,157.48) C37(-1023.62,157.48) C38(-1102.36,157.48) C39(-1181.1,157.48) C40(-1259.84,157.48) C41(-1338.58,157.48) C42(-1417.32,157.48) C43(-1496.06,157.48) C44(-1574.8,157.48) C45(-1653.54,157.48) C46(-1732.28,157.48) C47(-1811.02,157.48) D1(1811.02,236.22) D2(1732.28,236.22) D3(1653.54,236.22) D4(1574.8,236.22) D5(1496.06,236.22) D6(1417.32,236.22) D7(1338.58,236.22) D8(1259.84,236.22) D9(1181.1,236.22) D10(1102.36,236.22) D11(1023.62,236.22) D12(944.88,236.22) D13(866.14,236.22) D14(787.4,236.22) D15(708.66,236.22) D16(629.92,236.22) D17(551.18,236.22) D18(472.44,236.22) D19(393.7,236.22) D20(314.96,236.22) D21(236.22,236.22) D22(157.48,236.22) D23(78.74,236.22) D24(0,236.22) D25(-78.74,236.22) D26(-157.48,236.22) D27(-236.22,236.22) D28(-314.96,236.22) D29(-393.7,236.22) D30(-472.44,236.22) D31(-551.18,236.22) D32(-629.92,236.22) D33(-708.66,236.22) D37(-1023.62,236.22) D38(-1102.36,236.22) D39(-1181.1,236.22) D40(-1259.84,236.22) D41(-1338.58,236.22) D42(-1417.32,236.22) D43(-1496.06,236.22) D44(-1574.8,236.22) D45(-1653.54,236.22) D46(-1732.28,236.22) D47(-1811.02,236.22) E1(1811.02,314.96) E2(1732.28,314.96) E3(1653.54,314.96) E4(1574.8,314.96) E5(1496.06,314.96) E6(1417.32,314.96) E7(1338.58,314.96) E8(1259.84,314.96) E9(1181.1,314.96) E10(1102.36,314.96) E11(1023.62,314.96) E12(944.88,314.96) E13(866.14,314.96) E14(787.4,314.96) E15(708.66,314.96) E16(629.92,314.96) E17(551.18,314.96) E18(472.44,314.96) E19(393.7,314.96) E20(314.96,314.96) E21(236.22,314.96) E22(157.48,314.96) E23(78.74,314.96) E24(0,314.96) E25(-78.74,314.96) E26(-157.48,314.96) E27(-236.22,314.96) E28(-314.96,314.96) E29(-393.7,314.96) E30(-472.44,314.96) E31(-551.18,314.96) E32(-629.92,314.96) E33(-708.66,314.96) E37(-1023.62,314.96) E38(-1102.36,314.96) E39(-1181.1,314.96) E40(-1259.84,314.96) E41(-1338.58,314.96) E42(-1417.32,314.96) E43(-1496.06,314.96) E44(-1574.8,314.96) E45(-1653.54,314.96) E46(-1732.28,314.96) E47(-1811.02,314.96)
Top Overlay:
  drawing of 1174 lines, arcs and shapes, not listed
Mechanical 1:
  lines w0: -1870.08,-59.06 1870.08,-59.06
Mechanical 19:
  lines w4: 118.11,-425.2 1849.21,-425.2 1849.21,354.33

## 104734 [mil]
pads (220):
  oct 40x40 hole 27.56: A1(1811.02,0) A2(1732.28,0) A3(1653.54,0) A4(1574.8,0) A5(1496.06,0) A6(1417.32,0) A7(1338.58,0) A8(1259.84,0) A9(1181.1,0) A10(1102.36,0) A11(1023.62,0) A12(944.88,0) A13(866.14,0) A14(787.4,0) A15(708.66,0) A16(629.92,0) A17(551.18,0) A18(472.44,0) A19(393.7,0) A20(314.96,0) A21(236.22,0) A22(157.48,0) A23(78.74,0) A24(0,0) A25(-78.74,0) A26(-157.48,0) A27(-236.22,0) A28(-314.96,0) A29(-393.7,0) A30(-472.44,0) A31(-551.18,0) A32(-629.92,0) A33(-708.66,0) A37(-1023.62,0) A38(-1102.36,0) A39(-1181.1,0) A40(-1259.84,0) A41(-1338.58,0) A42(-1417.32,0) A43(-1496.06,0) A44(-1574.8,0) A45(-1653.54,0) A46(-1732.28,0) A47(-1811.02,0) B1(1811.02,78.74) B2(1732.28,78.74) B3(1653.54,78.74) B4(1574.8,78.74) B5(1496.06,78.74) B6(1417.32,78.74) B7(1338.58,78.74) B8(1259.84,78.74) B9(1181.1,78.74) B10(1102.36,78.74) B11(1023.62,78.74) B12(944.88,78.74) B13(866.14,78.74) B14(787.4,78.74) B15(708.66,78.74) B16(629.92,78.74) B17(551.18,78.74) B18(472.44,78.74) B19(393.7,78.74) B20(314.96,78.74) B21(236.22,78.74) B22(157.48,78.74) B23(78.74,78.74) B24(0,78.74) B25(-78.74,78.74) B26(-157.48,78.74) B27(-236.22,78.74) B28(-314.96,78.74) B29(-393.7,78.74) B30(-472.44,78.74) B31(-551.18,78.74) B32(-629.92,78.74) B33(-708.66,78.74) B37(-1023.62,78.74) B38(-1102.36,78.74) B39(-1181.1,78.74) B40(-1259.84,78.74) B41(-1338.58,78.74) B42(-1417.32,78.74) B43(-1496.06,78.74) B44(-1574.8,78.74) B45(-1653.54,78.74) B46(-1732.28,78.74) B47(-1811.02,78.74) C1(1811.02,157.48) C2(1732.28,157.48) C3(1653.54,157.48) C4(1574.8,157.48) C5(1496.06,157.48) C6(1417.32,157.48) C7(1338.58,157.48) C8(1259.84,157.48) C9(1181.1,157.48) C10(1102.36,157.48) C11(1023.62,157.48) C12(944.88,157.48) C13(866.14,157.48) C14(787.4,157.48) C15(708.66,157.48) C16(629.92,157.48) C17(551.18,157.48) C18(472.44,157.48) C19(393.7,157.48) C20(314.96,157.48) C21(236.22,157.48) C22(157.48,157.48) C23(78.74,157.48) C24(0,157.48) C25(-78.74,157.48) C26(-157.48,157.48) C27(-236.22,157.48) C28(-314.96,157.48) C29(-393.7,157.48) C30(-472.44,157.48) C31(-551.18,157.48) C32(-629.92,157.48) C33(-708.66,157.48) C37(-1023.62,157.48) C38(-1102.36,157.48) C39(-1181.1,157.48) C40(-1259.84,157.48) C41(-1338.58,157.48) C42(-1417.32,157.48) C43(-1496.06,157.48) C44(-1574.8,157.48) C45(-1653.54,157.48) C46(-1732.28,157.48) C47(-1811.02,157.48) D1(1811.02,236.22) D2(1732.28,236.22) D3(1653.54,236.22) D4(1574.8,236.22) D5(1496.06,236.22) D6(1417.32,236.22) D7(1338.58,236.22) D8(1259.84,236.22) D9(1181.1,236.22) D10(1102.36,236.22) D11(1023.62,236.22) D12(944.88,236.22) D13(866.14,236.22) D14(787.4,236.22) D15(708.66,236.22) D16(629.92,236.22) D17(551.18,236.22) D18(472.44,236.22) D19(393.7,236.22) D20(314.96,236.22) D21(236.22,236.22) D22(157.48,236.22) D23(78.74,236.22) D24(0,236.22) D25(-78.74,236.22) D26(-157.48,236.22) D27(-236.22,236.22) D28(-314.96,236.22) D29(-393.7,236.22) D30(-472.44,236.22) D31(-551.18,236.22) D32(-629.92,236.22) D33(-708.66,236.22) D37(-1023.62,236.22) D38(-1102.36,236.22) D39(-1181.1,236.22) D40(-1259.84,236.22) D41(-1338.58,236.22) D42(-1417.32,236.22) D43(-1496.06,236.22) D44(-1574.8,236.22) D45(-1653.54,236.22) D46(-1732.28,236.22) D47(-1811.02,236.22) E1(1811.02,314.96) E2(1732.28,314.96) E3(1653.54,314.96) E4(1574.8,314.96) E5(1496.06,314.96) E6(1417.32,314.96) E7(1338.58,314.96) E8(1259.84,314.96) E9(1181.1,314.96) E10(1102.36,314.96) E11(1023.62,314.96) E12(944.88,314.96) E13(866.14,314.96) E14(787.4,314.96) E15(708.66,314.96) E16(629.92,314.96) E17(551.18,314.96) E18(472.44,314.96) E19(393.7,314.96) E20(314.96,314.96) E21(236.22,314.96) E22(157.48,314.96) E23(78.74,314.96) E24(0,314.96) E25(-78.74,314.96) E26(-157.48,314.96) E27(-236.22,314.96) E28(-314.96,314.96) E29(-393.7,314.96) E30(-472.44,314.96) E31(-551.18,314.96) E32(-629.92,314.96) E33(-708.66,314.96) E37(-1023.62,314.96) E38(-1102.36,314.96) E39(-1181.1,314.96) E40(-1259.84,314.96) E41(-1338.58,314.96) E42(-1417.32,314.96) E43(-1496.06,314.96) E44(-1574.8,314.96) E45(-1653.54,314.96) E46(-1732.28,314.96) E47(-1811.02,314.96)
Top Overlay:
  drawing of 1139 lines, arcs and shapes, not listed
Mechanical 1:
  lines w0: -1889.76,-59.06 1889.76,-59.06

## 104735 [mil]
pads (309):
  round 78.74 hole 78.74: 1(0,0)
  round 40 hole 27.56: A1(-2677.17,-157.48) A2(-2598.43,-157.48) A3(-2519.69,-157.48) A4(-2440.94,-157.48) A5(-2362.2,-157.48) A6(-2283.46,-157.48) A7(-2204.72,-157.48) A8(-2125.98,-157.48) A9(-2047.24,-157.48) A10(-1968.5,-157.48) A11(-1889.76,-157.48) A12(-1811.02,-157.48) A13(-1732.28,-157.48) A14(-1653.54,-157.48) A15(-1574.8,-157.48) A16(-1496.06,-157.48) A17(-1417.32,-157.48) A18(-1338.58,-157.48) A19(-1259.84,-157.48) A20(-1181.1,-157.48) A21(-1102.36,-157.48) A22(-1023.62,-157.48) A23(-944.88,-157.48) A24(-866.14,-157.48) A25(-787.4,-157.48) A26(-708.66,-157.48) A27(-629.92,-157.48) A28(-551.18,-157.48) A29(-472.44,-157.48) A30(-393.7,-157.48) A31(-314.96,-157.48) A32(-236.22,-157.48) A33(-157.48,-157.48) A37(157.48,-157.48) A38(236.22,-157.48) A39(314.96,-157.48) A40(393.7,-157.48) A41(472.44,-157.48) A42(551.18,-157.48) A43(629.92,-157.48) A44(708.66,-157.48) A45(787.4,-157.48) A46(866.14,-157.48) A47(944.88,-157.48) B1(-2677.17,-78.74) B2(-2598.43,-78.74) B3(-2519.69,-78.74) B4(-2440.94,-78.74) B5(-2362.2,-78.74) B6(-2283.46,-78.74) B7(-2204.72,-78.74) B8(-2125.98,-78.74) B9(-2047.24,-78.74) B10(-1968.5,-78.74) B11(-1889.76,-78.74) B12(-1811.02,-78.74) B13(-1732.28,-78.74) B14(-1653.54,-78.74) B15(-1574.8,-78.74) B16(-1496.06,-78.74) B17(-1417.32,-78.74) B18(-1338.58,-78.74) B19(-1259.84,-78.74) B20(-1181.1,-78.74) B21(-1102.36,-78.74) B22(-1023.62,-78.74) B23(-944.88,-78.74) B24(-866.14,-78.74) B25(-787.4,-78.74) B26(-708.66,-78.74) B27(-629.92,-78.74) B28(-551.18,-78.74) B29(-472.44,-78.74) B30(-393.7,-78.74) B31(-314.96,-78.74) B32(-236.22,-78.74) B33(-157.48,-78.74) B37(157.48,-78.74) B38(236.22,-78.74) B39(314.96,-78.74) B40(393.7,-78.74) B41(472.44,-78.74) B42(551.18,-78.74) B43(629.92,-78.74) B44(708.66,-78.74) B45(787.4,-78.74) B46(866.14,-78.74) B47(944.88,-78.74) C1(-2677.17,0) C2(-2598.43,0) C3(-2519.69,0) C4(-2440.94,0) C5(-2362.2,0) C6(-2283.46,0) C7(-2204.72,0) C8(-2125.98,0) C9(-2047.24,0) C10(-1968.5,0) C11(-1889.76,0) C12(-1811.02,0) C13(-1732.28,0) C14(-1653.54,0) C15(-1574.8,0) C16(-1496.06,0) C17(-1417.32,0) C18(-1338.58,0) C19(-1259.84,0) C20(-1181.1,0) C21(-1102.36,0) C22(-1023.62,0) C23(-944.88,0) C24(-866.14,0) C25(-787.4,0) C26(-708.66,0) C27(-629.92,0) C28(-551.18,0) C29(-472.44,0) C30(-393.7,0) C31(-314.96,0) C32(-236.22,0) C33(-157.48,0) C37(157.48,0) C38(236.22,0) C39(314.96,0) C40(393.7,0) C41(472.44,0) C42(551.18,0) C43(629.92,0) C44(708.66,0) C45(787.4,0) C46(866.14,0) C47(944.88,0) D1(-2677.17,78.74) D2(-2598.43,78.74) D3(-2519.69,78.74) D4(-2440.94,78.74) D5(-2362.2,78.74) D6(-2283.46,78.74) D7(-2204.72,78.74) D8(-2125.98,78.74) D9(-2047.24,78.74) D10(-1968.5,78.74) D11(-1889.76,78.74) D12(-1811.02,78.74) D13(-1732.28,78.74) D14(-1653.54,78.74) D15(-1574.8,78.74) D16(-1496.06,78.74) D17(-1417.32,78.74) D18(-1338.58,78.74) D19(-1259.84,78.74) D20(-1181.1,78.74) D21(-1102.36,78.74) D22(-1023.62,78.74) D23(-944.88,78.74) D24(-866.14,78.74) D25(-787.4,78.74) D26(-708.66,78.74) D27(-629.92,78.74) D28(-551.18,78.74) D29(-472.44,78.74) D30(-393.7,78.74) D31(-314.96,78.74) D32(-236.22,78.74) D33(-157.48,78.74) D37(157.48,78.74) D38(236.22,78.74) D39(314.96,78.74) D40(393.7,78.74) D41(472.44,78.74) D42(551.18,78.74) D43(629.92,78.74) D44(708.66,78.74) D45(787.4,78.74) D46(866.14,78.74) D47(944.88,78.74) E1(-2677.17,157.48) E2(-2598.43,157.48) E3(-2519.69,157.48) E4(-2440.94,157.48) E5(-2362.2,157.48) E6(-2283.46,157.48) E7(-2204.72,157.48) E8(-2125.98,157.48) E9(-2047.24,157.48) E10(-1968.5,157.48) E11(-1889.76,157.48) E12(-1811.02,157.48) E13(-1732.28,157.48) E14(-1653.54,157.48) E15(-1574.8,157.48) E16(-1496.06,157.48) E17(-1417.32,157.48) E18(-1338.58,157.48) E19(-1259.84,157.48) E20(-1181.1,157.48) E21(-1102.36,157.48) E22(-1023.62,157.48) E23(-944.88,157.48) E24(-866.14,157.48) E25(-787.4,157.48) E26(-708.66,157.48) E27(-629.92,157.48) E28(-551.18,157.48) E29(-472.44,157.48) E30(-393.7,157.48) E31(-314.96,157.48) E32(-236.22,157.48) E33(-157.48,157.48) E37(157.48,157.48) E38(236.22,157.48) E39(314.96,157.48) E40(393.7,157.48) E41(472.44,157.48) E42(551.18,157.48) E43(629.92,157.48) E44(708.66,157.48) E45(787.4,157.48) E46(866.14,157.48) E47(944.88,157.48) F1(-2677.17,236.22) F2(-2598.43,236.22) F3(-2519.69,236.22) F4(-2440.94,236.22) F5(-2362.2,236.22) F6(-2283.46,236.22) F7(-2204.72,236.22) F8(-2125.98,236.22) F9(-2047.24,236.22) F10(-1968.5,236.22) F11(-1889.76,236.22) F12(-1811.02,236.22) F13(-1732.28,236.22) F14(-1653.54,236.22) F15(-1574.8,236.22) F16(-1496.06,236.22) F17(-1417.32,236.22) F18(-1338.58,236.22) F19(-1259.84,236.22) F20(-1181.1,236.22) F21(-1102.36,236.22) F22(-1023.62,236.22) F23(-944.88,236.22) F24(-866.14,236.22) F25(-787.4,236.22) F26(-708.66,236.22) F27(-629.92,236.22) F28(-551.18,236.22) F29(-472.44,236.22) F30(-393.7,236.22) F31(-314.96,236.22) F32(-236.22,236.22) F33(-157.48,236.22) F37(157.48,236.22) F38(236.22,236.22) F39(314.96,236.22) F40(393.7,236.22) F41(472.44,236.22) F42(551.18,236.22) F43(629.92,236.22) F44(708.66,236.22) F45(787.4,236.22) F46(866.14,236.22) F47(944.88,236.22) Z1(-2677.17,-236.22) Z2(-2598.43,-236.22) Z3(-2519.69,-236.22) Z4(-2440.94,-236.22) Z5(-2362.2,-236.22) Z6(-2283.46,-236.22) Z7(-2204.72,-236.22) Z8(-2125.98,-236.22) Z9(-2047.24,-236.22) Z10(-1968.5,-236.22) Z11(-1889.76,-236.22) Z12(-1811.02,-236.22) Z13(-1732.28,-236.22) Z14(-1653.54,-236.22) Z15(-1574.8,-236.22) Z16(-1496.06,-236.22) Z17(-1417.32,-236.22) Z18(-1338.58,-236.22) Z19(-1259.84,-236.22) Z20(-1181.1,-236.22) Z21(-1102.36,-236.22) Z22(-1023.62,-236.22) Z23(-944.88,-236.22) Z24(-866.14,-236.22) Z25(-787.4,-236.22) Z26(-708.66,-236.22) Z27(-629.92,-236.22) Z28(-551.18,-236.22) Z29(-472.44,-236.22) Z30(-393.7,-236.22) Z31(-314.96,-236.22) Z32(-236.22,-236.22) Z33(-157.48,-236.22) Z37(157.48,-236.22) Z38(236.22,-236.22) Z39(314.96,-236.22) Z40(393.7,-236.22) Z41(472.44,-236.22) Z42(551.18,-236.22) Z43(629.92,-236.22) Z44(708.66,-236.22) Z45(787.4,-236.22) Z46(866.14,-236.22) Z47(944.88,-236.22)
Top Overlay:
  lines w4: -115.12,-86.68 -62.96,-86.68 -62.96,-141.8 -83.87,-141.8 ; -115.12,86.55 -111.19,86.55 ; -111.19,-141.8 -111.19,-86.68 ; -88.55,-185.6 -88.55,-244.16 ; -88.55,185.47 -88.55,244.03 ; -74.77,216.47 74.84,216.47 ; -74.77,244.03 -74.77,193.43 ; -68.12,-141.8 -44.26,-155.58 ; -61.97,-244.16 -61.97,-200.94 ; -61.97,-216.6 62.04,-216.6 ; 62.04,-244.16 62.04,-200.94 ; 68.19,-141.8 44.33,-155.58 ; 74.84,244.03 74.84,193.43 ; 83.94,-141.8 46.44,-163.45 ; 88.62,-185.6 88.62,-244.16 ; 88.62,185.47 88.62,244.03 ; 90.58,184.42 cw(c93.55,191.72) 89.6,184.9 ; 90.58,184.43 ccw(c93.55,191.74) 93.54,183.85 ccw(c93.53,191.74) 96.5,184.43 ccw(c93.57,191.72) 99.11,186.15 ccw(c93.5,191.69) 100.21,187.55 ccw(c93.55,191.73) 101.41,191.72 ; 111.26,-141.8 111.26,-86.68 ; 115.19,-86.68 63.03,-86.68 63.03,-141.8 ; 115.19,86.55 111.26,86.55 ; -115.12,-141.8 63.03,-141.8 ; -115.12,-141.8 -127,-141.8 -127,141.67 -115.12,141.67 ; -115.12,-141.8 -83.87,-141.8 ; -115.12,-141.8 -115.12,141.67 ; -115.12,141.67 -111.19,141.67 ; -111.19,86.55 -62.96,86.55 -62.96,141.67 ; -111.19,86.55 -111.19,141.67 ; -111.19,141.67 -83.87,141.67 ; -101.34,-191.85 cw(c-93.47,-191.85) -89.53,-185.04 ; -101.34,-191.85 -101.34,-231.37 -88.55,-244.16 ; -101.34,-191.85 cw(c-93.47,-191.85) -89.53,-185.04 ; -89.53,-185.04 -61.97,-200.94 ; -88.55,-244.16 88.62,-244.16 ; -88.55,244.03 -101.34,231.23 -101.34,191.72 ccw(c-93.47,191.72) -89.53,184.91 -74.77,193.43 ; -88.55,244.03 88.62,244.03 ; -83.87,-141.8 -46.37,-163.45 ; -83.87,141.67 -68.12,141.67 ; -83.87,141.67 -46.37,163.32 ; -83.87,141.67 -68.12,141.67 ; -74.77,193.43 -57.46,176.11 57.53,176.11 74.84,193.43 ; -68.12,141.67 -62.96,141.67 ; -68.12,141.67 -44.26,155.44 ; -62.96,141.67 63.03,141.67 ; -61.97,-200.94 -37.28,-176.25 37.34,-176.25 62.04,-200.94 ; -49,25.71 -11.64,63.06 ; -49,25.71 49.06,25.71 ; -49,25.71 -49,131.65 ; -49,131.64 -11.64,94.29 ; -49,131.65 49.06,131.65 ; -46.37,-163.45 46.44,-163.45 ; -46.37,-163.45 -44.26,-155.58 ; -46.37,163.32 -44.26,155.44 ; -46.37,163.32 46.44,163.32 ; -44.26,-155.58 44.33,-155.58 ; -44.26,155.44 44.33,155.44 ; -11.64,63.07 -11.64,94.29 ; -11.64,63.07 11.71,63.07 ; -11.64,94.29 11.71,94.29 ; 11.71,63.06 49.06,25.71 ; 11.71,63.07 11.71,94.29 ; 11.71,94.29 49.06,131.64 ; 44.33,-155.58 46.44,-163.45 ; 44.33,155.44 46.44,163.32 ; 44.33,155.44 68.19,141.67 ; 46.44,163.32 83.94,141.67 ; 49.06,25.71 49.06,131.65 ; 62.04,-200.94 89.6,-185.04 cw(c93.54,-191.85) 101.41,-191.85 101.41,-231.37 88.62,-244.16 ; 63.03,-141.8 115.19,-141.8 ; 63.03,141.67 63.03,86.55 111.26,86.55 ; 63.03,141.67 68.19,141.67 ; 68.19,141.67 83.94,141.67 ; 74.84,193.43 89.6,184.9 ; 83.94,141.67 111.26,141.67 ; 88.62,244.03 101.41,231.23 101.41,191.72 ; 89.6,184.9 ccw(c93.54,191.72) 101.41,191.72 ; 111.26,86.55 111.26,141.67 ; 111.26,141.67 115.19,141.67 ; 115.19,-141.8 115.19,141.67 ; 115.19,-141.8 127,-141.8 127,141.67 115.19,141.67 ; -2714.57,-253.94 -2714.57,253.94 -2694.88,273.63 -2694.88,303.15 -1015.78,303.15 998.03,303.15 998.03,271.65 982.28,255.91 982.28,-255.91 998.03,-271.65 998.03,-303.15 -1015.78,-303.15 -2694.88,-303.15 -2694.88,-273.62 -2714.57,-253.94